# Altium footprint library CAPC200X125X95L50N.PcbLib: 1 footprints
Each footprint in its own frame and in the unit in brackets; x right, y up, seen from the top. Pads: shape width x height; smd on the part's side, far side on the other; paste and mask are expansions set on the pad; w line width, h text height; cw(c..) or ccw(c..) is an arc to the next point about the centre after c.
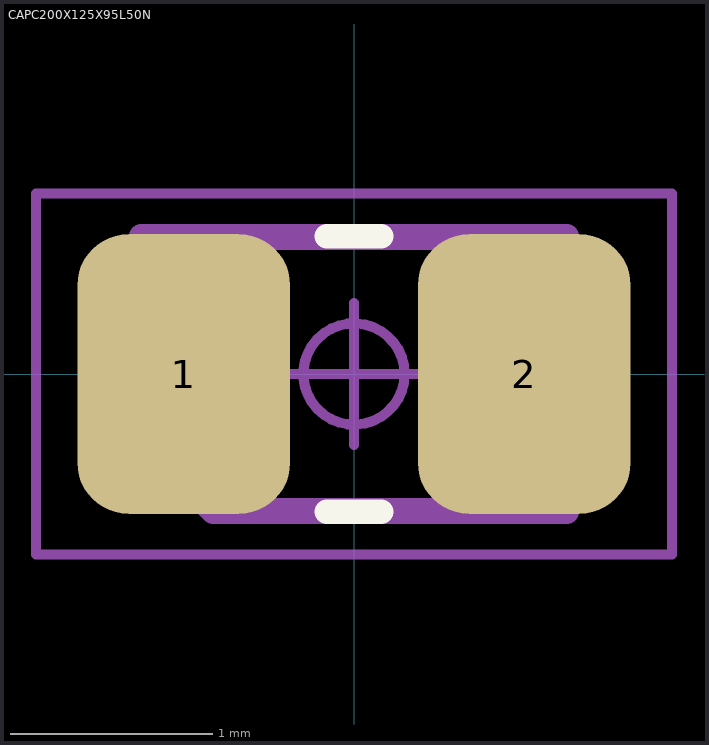
[diagram p0: the footprint, top view; thin cyan lines are the x and y axes]

## CAPC200X125X95L50N [mm] "Capacitor, Chip; 2.00 mm L X 1.25 mm W X 0.95 mm H body"
height 0.95
pads (2):
  rrect48% 1.05x1.38 smd: 1(-0.84,0) 2(0.84,0)
Top Overlay:
  lines w0.12: -0.135,-0.68 0.135,-0.68 ; -0.135,0.68 0.135,0.68
Mechanical 3:
  lines w0.12: -1.05,-0.325 -0.695,-0.68 1.05,-0.68 1.05,0.68 -1.05,0.68 -1.05,-0.325
Mechanical 5:
  lines w0.025: -1,-0.625 -0.5,-0.625 -0.5,0.625 -1,0.625 ; -1,-0.625 -1,0.625 ; -1,-0.625 -1,0.625 ; -1,-0.625 1,-0.625 ; -1,0.625 1,0.625 ; 1,-0.625 1,0.625 ; 1,-0.625 0.5,-0.625 0.5,0.625 1,0.625 ; 1,-0.625 1,0.625
Mechanical 7:
  circle w0.05: c0,0 r0.25
  lines w0.05: -0.35,0 0.35,0 ; 0,-0.35 0,0.35 ; -1.57,-0.89 -1.57,0.89 1.57,0.89 1.57,-0.89 -1.57,-0.89
Mechanical 9:
  text "'.Designator'" at -5.655,-0.179 h1
3D body "CAPC200X125X95L50.STEP": height 0.95, standoff 0, extent -1,-0.625 1,0.625
3D body: height 1.04, standoff 0, extent -1.57,-0.89 1.57,0.89